# Altium schematic symbol library TLV809EA26DBZR.SchLib: 2 symbols
Pins are listed as number, name and electrical type; pins without a type are passive.

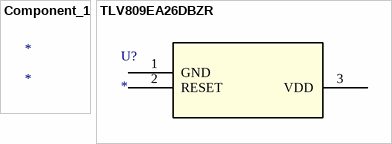
[diagram p0: symbols Component_1 to TLV809EA26DBZR]

## Component_1
designator *

## TLV809EA26DBZR
designator U?
No Description Available; Mfr_Name: Texas Instruments; RefDes: RefDes; Type: Type
footprint SOT_26DBZR_TEX
pins: 1 GND (power), 2 RESET, 3 VDD (power)